# Altium integrated library B4B-EH-A.IntLib: 1 symbol
Pins are listed as number, name and electrical type; pins without a type are passive.

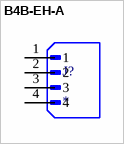
[diagram p0: symbol B4B-EH-A]

## B4B-EH-A
designator J?
Connector Header Through Hole 4 position 0.098 (2.50mm); MF: JST; MP: B4B-EH-A; SnapEDA_Link: https://www.snapeda.com/parts/B4B-EH-A/JST/view-part/?ref=snap; Package: None; Value: *; Check_prices: https://www.snapeda.com/parts/B4B-EH-A/JST/view-part/?ref=eda
footprint JST_B4B-EH-A
pins: 1, 2, 3, 4